# EAGLE library part ARDUINO_MICRO_NOOUTLINE (library E14_Arduino_revC)
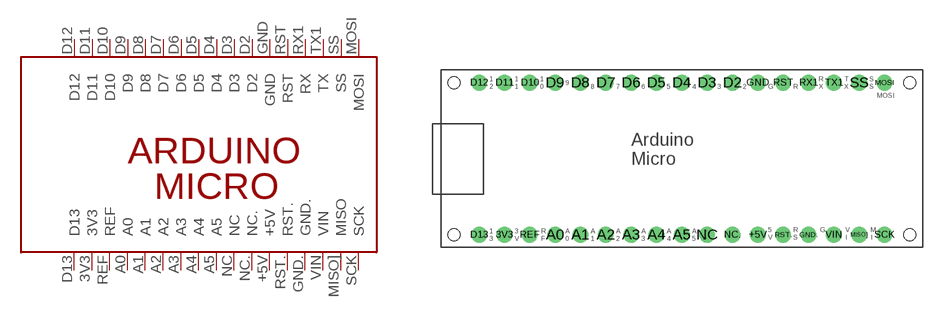
[diagram p11: symbol with the pads of ARDUINO_MICRO_NOOUTLINE; footprint ARDUINO_MICRO_NOOUTLINE]

Designator prefix -

## ARDUINO_MICRO_NOOUTLINE  [ARDUINO_MICRO_NOOUTLINE]
3V3  3V3
+5V  +5V
A0  A0
A1  A1
A2  A2
A3  A3
A4  A4
A5  A5
D2  D2
D3  D3
D4  D4
D5  D5
D6  D6
D7  D7
D8  D8
D9  D9
D10  D10
D11  D11
D12  D12
D13  D13
GND  GND
GND.  GND.
MISO]  MISO
MOSI  MOSI
NC  NC
NC.  NC.
REF  REF
RST  RST
RST.  RST.
RX1  RX
SCK  SCK
SS  SS
TX1  TX
VIN  VIN

## Footprint ARDUINO_MICRO_NOOUTLINE (pad centres in mm)
drill 1.016 pad 1.575: 3V3 -17.78,-7.62; +5V 7.62,-7.62; A0 -12.7,-7.62; A1 -10.16,-7.62; A2 -7.62,-7.62; A3 -5.08,-7.62; A4 -2.54,-7.62; A5 0,-7.62; D2 5.08,7.62; D3 2.54,7.62; D4 0,7.62; D5 -2.54,7.62; D6 -5.08,7.62; D7 -7.62,7.62; D8 -10.16,7.62; D9 -12.7,7.62; D10 -15.24,7.62; D11 -17.78,7.62; D12 -20.32,7.62; D13 -20.32,-7.62; GND 7.62,7.62; GND. 12.7,-7.62; MISO] 17.78,-7.62; MOSI 20.32,7.62; NC 2.54,-7.62; NC. 5.08,-7.62; REF -15.24,-7.62; RST 10.16,7.62; RST. 10.16,-7.62; RX1 12.7,7.62; SCK 20.32,-7.62; SS 17.78,7.62; TX1 15.24,7.62; VIN 15.24,-7.62
hole 1.2 at -22.86,-7.62
hole 1.2 at -22.86,7.62
hole 1.2 at 22.86,7.62
hole 1.2 at 22.86,-7.62